# Altium footprint library AntennaFoot.PcbLib: 1 footprints
Each footprint in its own frame and in the unit in brackets; x right, y up, seen from the top. Pads: shape width x height; smd on the part's side, far side on the other; paste and mask are expansions set on the pad; w line width, h text height; cw(c..) or ccw(c..) is an arc to the next point about the centre after c.
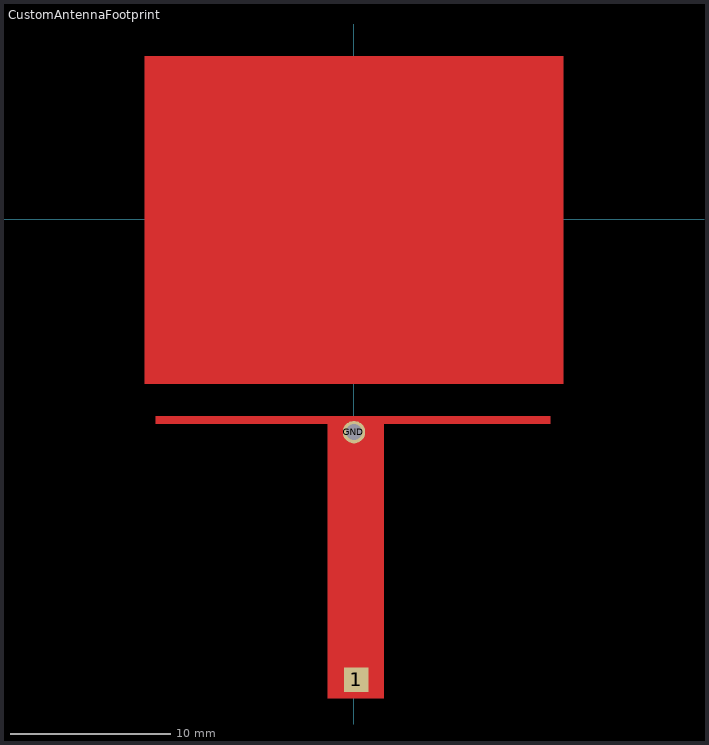
[diagram p0: the footprint, top view; thin cyan lines are the x and y axes]

## CustomAntennaFootprint [mil]
pads (3):
  round 60 on Top Solder: 1(5,-1130)
  rect 60x60 smd: 1(5,-1130)
  round 55.12 hole 39.37: GND(0,-522.32)
Top Layer:
  region: 73.53,-1175.32 73.53,-488.77 -65.44,-488.77 -65.44,-1175.32
  rectangle: -486.54,-502.65 482.01,-482.96
  rectangle: -513.32,-404.22 513.33,400.45
Top Solder:
  region: 73.53,-1175.32 73.53,-488.77 -65.44,-488.77 -65.44,-1175.32
  rectangle: -486.54,-502.65 482.01,-482.96
  rectangle: -513.32,-404.22 513.32,400.45